# Altium schematic symbol library DIODE,TVS,20V,SMD,BIDIR.Schlib: 1 symbol
Pins are listed as number, name and electrical type; pins without a type are passive.

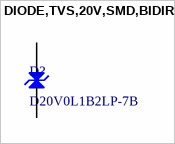
[diagram p0: symbol DIODE,TVS,20V,SMD,BIDIR]

## DIODE,TVS,20V,SMD,BIDIR
designator D?, comment D20V0L1B2LP-7B
34V Clamp 2A (8/20µs) Ipp Tvs Diode Surface Mount X1-DFN1006-2
pins: 1 K, 2 A